# Altium integrated library nrf52840_qiaa.IntLib: 24 symbols
Pins are listed as number, name and electrical type; pins without a type are passive.

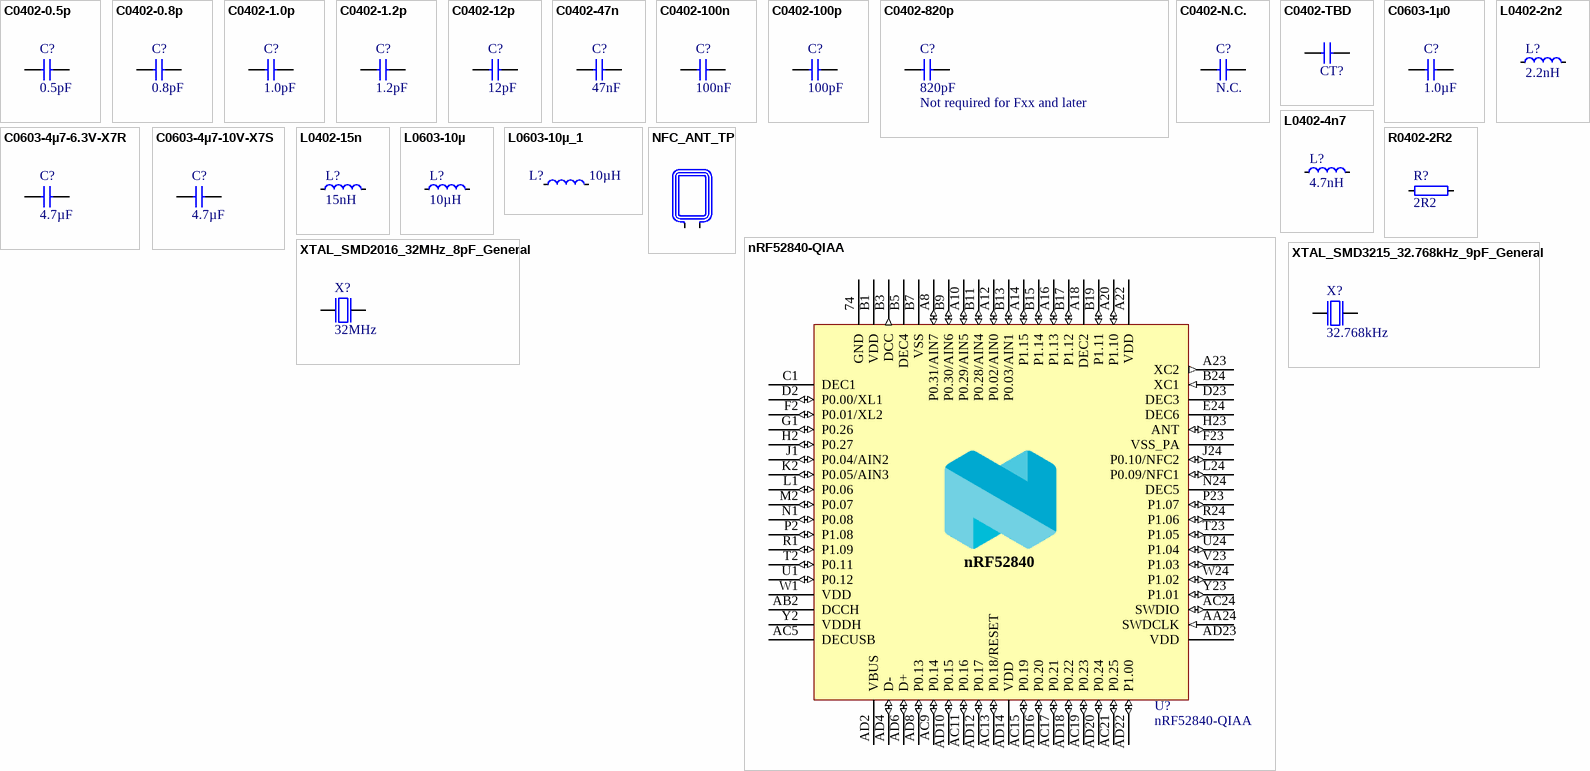
[diagram p0: symbols C0402-0.5p to XTAL_SMD3215_32.768kHz_9pF_General]

## C0402-0.5p
designator C?, comment 0.5pF
Capacitor, NP0, ±10%; Part Number: C0402-0.5p; Pad Count: 2; LatestRevisionDate: 2017-02-23; Published: 2009-05-08; Value: 0.5pF; Footprint Doc: 0402
footprint CAPC1005X04L
pins: 1, 2

## C0402-0.8p
designator C?, comment 0.8pF
Capacitor, NP0, ±10%; Part Number: C0402-0.8p; Pad Count: 2; LatestRevisionDate: 2012-11-21; Published: 2009-05-08; Value: 0.8pF; Footprint Doc: 0402
footprint CAPC1005X04L
pins: 1, 2

## C0402-1.0p
designator C?, comment 1.0pF
Capacitor, NP0, ±5%; Part Number: C0402-1.0p; Pad Count: 2; LatestRevisionDate: 2017-02-23; Published: 2009-05-08; Value: 1.0pF; Footprint Doc: 0402
footprint CAPC1005X04L
pins: 1, 2

## C0402-1.2p
designator C?, comment 1.2pF
Capacitor, NP0, ±5%; Part Number: C0402-1.2p; Pad Count: 2; LatestRevisionDate: 2011-05-11; Published: 2009-05-08; Value: 1.2pF; Footprint Doc: 0402
footprint CAPC1005X04L
pins: 1, 2

## C0402-12p
designator C?, comment 12pF
Capacitor, NP0, ±2%; Part Number: C0402-12p; Pad Count: 2; LatestRevisionDate: 2011-05-11; Published: 2009-05-08; Value: 12pF; Footprint Doc: 0402
footprint CAPC1005X04L
pins: 1, 2

## C0402-47n
designator C?, comment 47nF
Capacitor, X7R, ±10%; Part Number: C0402-47n; Pad Count: 2; LatestRevisionDate: 2009-05-08; Published: 2009-05-08; Value: 47nF; Footprint Doc: 0402
footprint CAPC1005X04L
pins: 1, 2

## C0402-100n
designator C?, comment 100nF
Capacitor, X7R, ±10%; Part Number: C0402-100n; Pad Count: 2; LatestRevisionDate: 2009-11-23; Published: 2009-05-08; Value: 100nF; Footprint Doc: 0402
footprint CAPC1005X04L
pins: 1, 2

## C0402-100p
designator C?, comment 100pF
Capacitor, NP0, ±5%; Part Number: C0402-100p; Pad Count: 2; LatestRevisionDate: 2009-05-08; Published: 2009-05-08; Value: 100pF; Footprint Doc: 0402
footprint CAPC1005X04L
pins: 1, 2

## C0402-820p
designator C?, comment 820pF  Assembly: Not required for Fxx and later
Capacitor, NP0, ±5%; Part Number: C0402-820p; Pad Count: 2; LatestRevisionDate: 2009-05-08; Published: 2009-05-08; Value: 820pF; Footprint Doc: 0402
footprint CAPC1005X04L
pins: 1, 2

## C0402-N.C.
designator C?, comment N.C.
Not mounted; Part Number: C0402-N.C.; Pad Count: 2; Assembly: Not mounted; LatestRevisionDate: 2009-05-08; Published: 2009-05-08; Value: N.C.; Footprint Doc: 0402
footprint CAPC1005X04L
pins: 1, 2

## C0402-TBD
designator CT?, comment Antenna dependent  (value not drawn)
Capacitor, NP0, ±5%; Part Number: C0402-TBD; Pad Count: 2; Footprint Doc: 0402; LatestRevisionDate: 2010-12-21; Published: 2010-12-21; Value: Antenna dependent
footprint CAPC1005X04L
pins: 1, 2

## C0603-1µ0
designator C?, comment 1.0µF
Capacitor, X7R, ±10%; Part Number: C0603-1µ0; Pad Count: 2; LatestRevisionDate: 2013-06-05; Published: 2009-05-08; Value: 1.0µF; Footprint Doc: 0603
footprint CAPC1608X06L
pins: 1, 2

## C0603-4µ7-6.3V-X7R
designator C?, comment 4.7µF
Capacitor, X7R, ±10%; Part Number: C0603-4µ7-6.3V-X7R; Pad Count: 2; LatestRevisionDate: 2015-06-10; Published: 2015-06-10; Value: 4.7µF; Footprint Doc: 0603
footprint CAPC1608X06L
pins: 1, 2

## C0603-4µ7-10V-X7S
designator C?, comment 4.7µF
Capacitor, X7S, ±10%; Part Number: C0603-4µ7-10V-X7S; Pad Count: 2; LatestRevisionDate: 2016-08-15; Published: 2016-08-15; Value: 4.7µF; Footprint Doc: 0603
footprint CAPC1608X06L
pins: 1, 2

## L0402-2n2
designator L?, comment 2.2nH
High frequency chip inductor ±5%; Part Number: L0402-2n2; Pad Count: 2; LatestRevisionDate: 2012-09-19; Published: 2009-05-08; Value: 2.2nH; Footprint Doc: 0402
footprint INDC1005X04L
pins: 1, 2

## L0402-4n7
designator L?, comment 4.7nH
High frequency chip inductor ±5%; Part Number: L0402-4n7; Pad Count: 2; LatestRevisionDate: 2012-09-19; Published: 2009-05-08; Value: 4.7nH; Footprint Doc: 0402
footprint INDC1005X04L
pins: 1, 2

## L0402-15n
designator L?, comment 15nH
High frequency chip inductor ±10%; Part Number: L0402-15n; Pad Count: 2; LatestRevisionDate: 2012-09-19; Published: 2010-07-12; Value: 15nH; Footprint Doc: 0402
footprint INDC1005X04L
pins: 1, 2

## L0603-10µ
designator L?, comment 10µH
Chip inductor, IDC,min = 50 mA, ±20%; Part Number: L0603-10µ; Pad Count: 2; LatestRevisionDate: 2012-09-19; Published: 2010-02-24; Value: 10µH; Footprint Doc: 0603
footprint INDC1608X06L
pins: 1, 2

## L0603-10µ_1
designator L?, comment 10µH
Chip inductor, IDC,min = 80 mA, ±20%; Part Number: L0603-10µ; Pad Count: 2; LatestRevisionDate: 2012-09-19; Published: 2010-02-24; Value: 10µH; Footprint Doc: 0603
footprint INDC1608X06L
pins: 1, 2

## NFC_ANT_TP
designator A?, comment NFC Antenna  (value not drawn)  (no BOM)
Part Number: NFC_ANT_TP; Pad Count: 2; Footprint Doc: TP_2x1mm_TH; LatestRevisionDate: 2016-02-23; Published: 2016-02-23; Value: NFC Antenna
footprint TP_2x1mm_TH
pins: 1, 2

## nRF52840-QIAA
designator U?
Multi-protocol Bluetooth Low Energy, IEEE 802.15.4, ANT and 2.4GHz proprietary system-on-chip; Pad Count: 73; Part Number: nRF52840-QIAA; LatestRevisionDate: 2017-08-21; Published: 2017-08-21; Value: nRF52840-QIAA; Footprint Doc: AQFN-73
footprint AQFN50P700X700X85_HS-74N
pins: 74 GND (power), A8 P0.31/AIN7 (io), A10 P0.29/AIN5 (io), A12 P0.02/AIN0 (io), A14 P1.15 (io), A16 P1.13 (io), A18 DEC2 (power), A20 P1.10 (io), A22 VDD (power), A23 XC2 (out), AA24 SWDCLK (in), AB2 DCCH (power), AC5 DECUSB (power), AC9 P0.14 (io), AC11 P0.16 (io), AC13 P0.18/RESET (io), AC15 P0.19 (io), AC17 P0.21 (io), AC19 P0.23 (io), AC21 P0.25 (io), AC24 SWDIO (io), AD2 VBUS (power), AD4 D- (io), AD6 D+ (io), AD8 P0.13 (io), AD10 P0.15 (io), AD12 P0.17 (io), AD14 VDD (power), AD16 P0.20 (io), AD18 P0.22 (io), AD20 P0.24 (io), AD22 P1.00 (io), AD23 VDD (power), B1 VDD (power), B3 DCC (out), B5 DEC4 (power), B7 VSS (power), B9 P0.30/AIN6 (io), B11 P0.28/AIN4 (io), B13 P0.03/AIN1 (io), B15 P1.14 (io), B17 P1.12 (io), B19 P1.11 (io), B24 XC1 (in), C1 DEC1 (power), D2 P0.00/XL1 (io), D23 DEC3 (power), E24 DEC6 (power), F2 P0.01/XL2 (io), F23 VSS_PA (power), G1 P0.26 (io), H2 P0.27 (io), H23 ANT (io), J1 P0.04/AIN2 (io), J24 P0.10/NFC2 (io), K2 P0.05/AIN3 (io), L1 P0.06 (io), L24 P0.09/NFC1 (io), M2 P0.07 (io), N1 P0.08 (io), N24 DEC5 (power), P2 P1.08 (io), P23 P1.07 (io), R1 P1.09 (io), R24 P1.06 (io), T2 P0.11 (io), T23 P1.05 (io), U1 P0.12 (io), U24 P1.04 (io), V23 P1.03 (io), W1 VDD (power), W24 P1.02 (io), Y2 VDDH (power), Y23 P1.01 (io)
text: nRF52840

## R0402-2R2
designator R?, comment 2R2
Resistor, ±1%, 0.063W; Part Number: R0402-2R2; Pad Count: 2; Footprint Doc: 0402; LatestRevisionDate: 2012-06-22; Published: 2012-06-22; Value: 2R2
footprint RESC1005X04L
pins: 1, 2

## XTAL_SMD2016_32MHz_8pF_General
designator X?, comment 32MHz
XTAL SMD 2016, 32MHz, Cl=8pF, Total Tol: ±40ppm; Part Number: XTAL_SMD2016_32MHz_8pF_General; Pad Count: 4; LatestRevisionDate: 2016-08-19; Published: 2016-08-19; Value: 32MHz; Footprint Doc: XTAL_2016
footprint BT-XTAL_2016
pins: 1 inp, 2 GND hidden to GND, 3 out, 4 GND hidden to GND

## XTAL_SMD3215_32.768kHz_9pF_General
designator X?, comment 32.768kHz
XTAL SMD 3215, 32.768kHz, Cl=9pF, Total Tol: ±50ppm; Part Number: XTAL_SMD3215_32.768kHz_9pF_General; Pad Count: 2; LatestRevisionDate: 2016-08-19; Published: 2016-08-19; Value: 32.768kHz; Footprint Doc: XTAL_3215
footprint XTAL_3215
pins: 1 inp, 2 out